# Altium footprint library Generic.PcbLib: 17 footprints (part 1 of 2)
Each footprint in its own frame and in the unit in brackets; x right, y up, seen from the top. Pads: shape width x height; smd on the part's side, far side on the other; paste and mask are expansions set on the pad; w line width, h text height; cw(c..) or ccw(c..) is an arc to the next point about the centre after c.
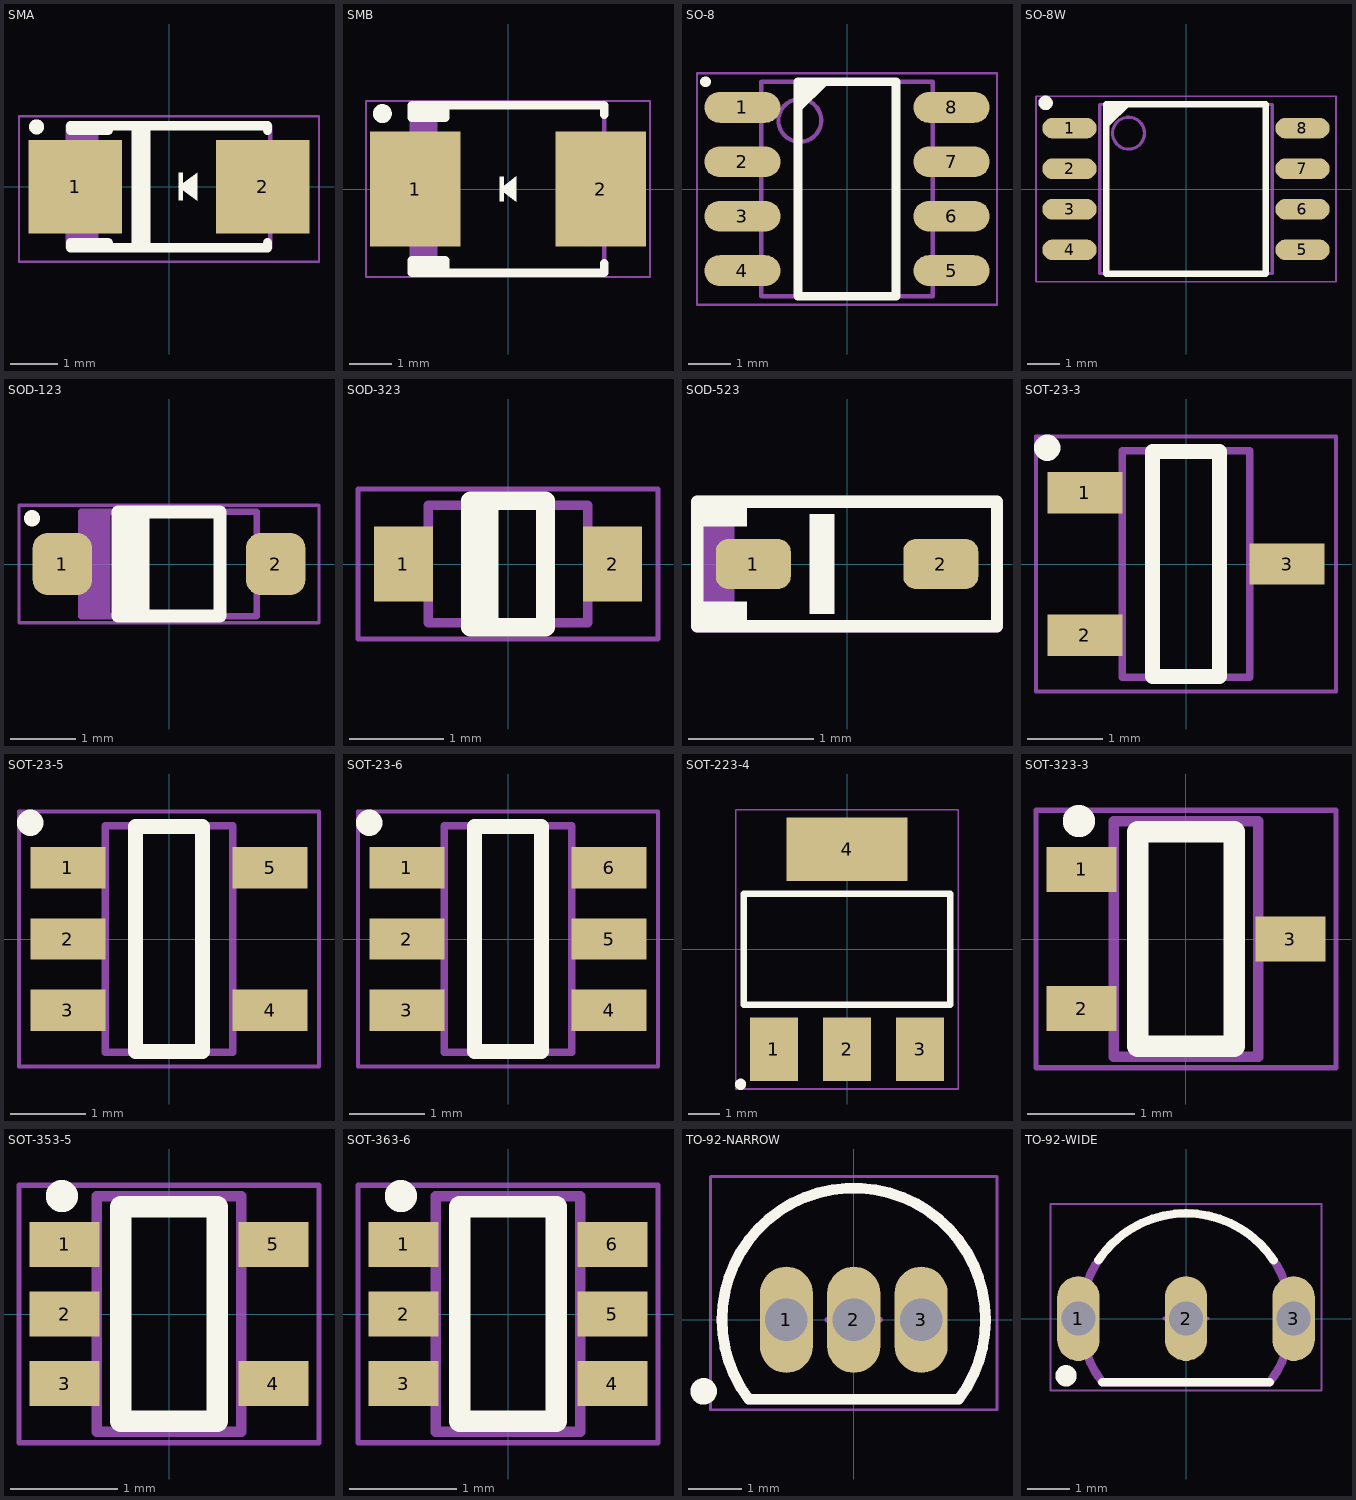
[diagram p0: the footprints below, top view; thin cyan lines are the x and y axes]

## SMA [mm] "Molded, 2-Leads, Body 4.6x3.95mm"
height 2.42
pads (2):
  rect 2x2 smd: 1(-2,0) 2(2,0)
Top Overlay:
  circle w0.25: c-2.825,1.275 r0.035
  rectangle: 0.2,-0.3 0.3,0.3
  rectangle: -0.8,-1.3 -0.4,1.3
  region: 0.6,0.3 0.6,-0.3 0.2,0
  lines w0.2: -1.3,-1.3 -1.3,-1.2 -2.1,-1.2 -2.1,-1.3 2.1,-1.3 2.1,-1.2 ; -1.3,1.3 -1.3,1.2 -2.1,1.2 -2.1,1.3 2.1,1.3 2.1,1.2
Mechanical 13:
  rectangle: -2.16,-1.3 -1.5,1.3
  lines w0.1: -2.16,-1.3 -2.16,1.3 2.16,1.3 2.16,-1.3 -2.16,-1.3
Mechanical 15:
  lines w0.05: -3.2,-1.6 -3.2,1.5 3.2,1.5 3.2,-1.6 -3.2,-1.6
  text ".Designator" at -3.2,-0.4 h1.5
3D body "User Library-DO-214AC_SMA.step": height 2.2, standoff 0, extent -2.5,-1.35 2.5,1.35

## SMB [mm] "Molded, 2-Leads, Body 4.6x3.95mm"
height 2.42
pads (2):
  rect 2.159x2.743 smd: 1(-2.21,0) 2(2.21,0)
Top Overlay:
  circle w0.25: c-3,1.8 r0.1
  rectangle: -2.3,-2 -1.5,-1.7
  rectangle: -2.3,1.7 -1.5,2
  rectangle: -0.2,-0.3 -0.1,0.3
  region: 0.2,0.3 0.2,-0.3 -0.2,0
  lines w0.2: -2.3,1.772 -2.3,2 ; -1.5,-2 -1.5,-1.7 -2.3,-1.7 -2.3,-2 2.3,-2 2.3,-1.772 ; -1.5,2 -1.5,1.7 -2.3,1.7 -2.3,2 ; 2.3,1.772 2.3,2 -2.3,2
Mechanical 13:
  rectangle: -2.3,-1.975 -1.681,1.975
  lines w0.1: -2.3,-1.975 2.3,-1.975 2.3,1.975 -2.3,1.975 -2.3,-1.975
Mechanical 15:
  lines w0.05: -3.39,-2.1 3.39,-2.1 3.39,2.1 -3.39,2.1 -3.39,-2.1
  text ".Designator" at -3.2,-0.4 h1.5
3D body "User Library-DO-214AA_SMB.step": height 2.25, standoff 0, extent -2.65,-1.85 2.65,1.85

## SO-8 [mm] "SOIC, 8-Leads, Body 4.90x3.90mm, Pitch 1.27mm, IPC Medium Density"
height 1.75
pads (8):
  oval 1.78x0.72 smd: 1(-2.44,1.905) 2(-2.44,0.635) 3(-2.44,-0.635) 4(-2.44,-1.905) 5(2.44,-1.905) 6(2.44,-0.635) 7(2.44,0.635) 8(2.44,1.905)
Top Overlay:
  circle w0.25: c-3.3,2.5 r0
  region: -0.45,2.45 -1.1,1.8 -1.1,2.45
  lines w0.2: -1.143,-2.5 1.143,-2.5 1.143,2.5 -1.143,2.5 -1.143,-2.5
Mechanical 13:
  circle w0.1: c-1.1,1.6 r0.5
  lines w0.1: -2,-2.5 2,-2.5 2,2.5 -2,2.5 -2,-2.5
Mechanical 15:
  lines w0.05: -3.5,-2.7 3.5,-2.7 3.5,2.7 -3.5,2.7 -3.5,-2.7
  text ".Designator" at -3.4,1.6 h1.5
3D body "User Library-SO8-1.step": height 1.75, standoff 0, extent -3.1,-2.5 3.1,2.5

## SO-8W [mm] "SOIC, 8-Leads, Body 5.23x5.28mm, Pitch 1.27mm, IPC Medium Density"
height 2.16
pads (8):
  oval 1.7x0.65 smd: 1(-3.65,1.905) 2(-3.65,0.635) 3(-3.65,-0.635) 4(-3.65,-1.905) 5(3.65,-1.905) 6(3.65,-0.635) 7(3.65,0.635) 8(3.65,1.905)
Top Overlay:
  circle w0.25: c-4.4,2.7 r0.1
  region: -1.75,2.625 -2.4,1.975 -2.4,2.625
  lines w0.2: -2.5,-2.65 -2.5,2.65 2.5,2.65 2.5,-2.65 -2.5,-2.65
Mechanical 13:
  circle w0.1: c-1.8,1.75 r0.5
  lines w0.1: -2.7,-2.65 -2.7,2.65 2.7,2.65 2.7,-2.65 -2.7,-2.65
Mechanical 15:
  lines w0.05: -4.7,-2.9 -4.7,2.9 4.7,2.9 4.7,-2.9 -4.7,-2.9
  text ".Designator" at -3,0 h1.5
3D body "MX25L_SO8_200MIL.step": height 2.16, standoff 0, extent -3.95,-2.65 3.95,2.65

## SOD-123 [mm] "SOD, 2-Leads, Body 2.69x1.6mm"
height 1.35
pads (2):
  rrect50% 0.91x0.95 smd: 1(-1.635,0) 2(1.635,0)
Top Overlay:
  circle w0.25: c-2.1,0.7 r0
  rectangle: -0.78,-0.8 -0.3,0.8
  lines w0.2: -0.78,-0.8 0.78,-0.8 0.78,0.8 -0.78,0.8 -0.78,-0.8
Mechanical 13:
  rectangle: -1.345,-0.8 -0.9,0.8
  lines w0.1: -1.345,-0.8 1.345,-0.8 1.345,0.8 -1.345,0.8 -1.345,-0.8
Mechanical 15:
  lines w0.05: -2.3,-0.9 2.3,-0.9 2.3,0.9 -2.3,0.9 -2.3,-0.9
  text ".Designator" at -2,-0.4 h1.5
3D body "CircuitWorks-SOD123.step": height 1.27, standoff 0, extent -1.85,-0.8 1.85,0.8

## SOD-323 [mm] "SOD, 2-Leads, Body 1.7x1.25mm"
height 1.062
pads (2):
  rect 0.63x0.8 smd: 1(-1.115,0) 2(1.115,0)
Top Overlay:
  rectangle: -0.4,-0.675 -0.1,0.675
  lines w0.2: -0.4,-0.675 -0.4,0.675 0.4,0.675 0.4,-0.675 -0.4,-0.675
Mechanical 13:
  lines w0.1: -0.85,-0.625 -0.85,0.625 0.85,0.625 0.85,-0.625 -0.85,-0.625
Mechanical 15:
  lines w0.05: -1.6,-0.8 -1.6,0.8 1.6,0.8 1.6,-0.8 -1.6,-0.8
  text ".Designator" at -1.4,-0.3 h1
3D body "User Library-SOD-323.step": height 1.1, standoff 0, extent -1.3,-0.675 1.3,0.675

## SOD-523 [mm]
pads (2):
  rrect50% 0.6x0.4 smd: 1(-0.75,0) 2(0.75,0)
Top Overlay:
  region: -0.8,0.3 -0.8,0.5 -1.2,0.5 -1.2,0.3
  region: -1.2,-0.3 -1.2,-0.5 -0.8,-0.5 -0.8,-0.3
  region: -0.1,0.4 -0.3,0.4 -0.3,-0.4 -0.1,-0.4
  lines w0.1: -1.2,-0.5 -1.2,0.5 1.2,0.5 1.2,-0.5 -1.2,-0.5
Mechanical 13:
  region: -0.9,0.5 -1.2,0.5 -1.2,-0.5 -0.9,-0.5
  lines w0.1: -1.2,-0.5 -1.2,0.5 1.2,0.5 1.2,-0.5 -1.2,-0.5
Mechanical 15:
  lines w0.05: -1.2,-0.5 -1.2,0.5 1.2,0.5 1.2,-0.5 -1.2,-0.5
  text ".Designator" at -1,-0.1 h0.5
3D body "User Library-SOD-523F.step": height 0.7, standoff 0, extent -0.8,-0.399 0.8,0.399

## SOT-23-3 [mm] "SOT23, 3-Leads"
height 1.45
pads (3):
  rect 1x0.55 smd: 1(-1.35,0.95) 2(-1.35,-0.95) 3(1.35,0)
Top Overlay:
  circle w0.25: c-1.85,1.55 r0.05
  lines w0.2: -0.45,-1.5 -0.45,1.5 0.45,1.5 0.45,-1.5 -0.45,-1.5
Mechanical 13:
  lines w0.1: -0.85,-1.51 0.85,-1.51 0.85,1.51 -0.85,1.51 -0.85,-1.51
Mechanical 15:
  lines w0.05: -2,-1.7 2,-1.7 2,1.7 -2,1.7 -2,-1.7
  text ".Designator" at -1.9,0.5 h1.5
3D body "CircuitWorks-SOT-23.step": height 1.1, standoff 0, extent -1.25,-1.5 1.25,1.5

## SOT-23-5 [mm] "SOT23, 5-Leads, Body 2.92x2.80mm, Pitch 0.95mm, IPC Medium Density"
height 1.45
pads (5):
  rect 1x0.55 smd: 1(-1.35,0.95) 2(-1.35,0) 3(-1.35,-0.95) 4(1.35,-0.95) 5(1.35,0.95)
Top Overlay:
  circle w0.25: c-1.85,1.55 r0.05
  lines w0.2: -0.45,-1.5 0.45,-1.5 0.45,1.5 -0.45,1.5 -0.45,-1.5
Mechanical 13:
  lines w0.1: -0.85,-1.51 -0.85,1.51 0.85,1.51 0.85,-1.51 -0.85,-1.51
Mechanical 15:
  lines w0.05: -2,-1.7 -2,1.7 2,1.7 2,-1.7 -2,-1.7
  text ".Designator" at -1.9,0.5 h1.5
3D body "CircuitWorks-SOT-23-5.step": height 1.1, standoff 0, extent -1.25,-1.5 1.25,1.5

## SOT-23-6 [mm] "SOT23, 6-Leads"
height 1.45
pads (6):
  rect 1x0.55 smd: 1(-1.35,0.95) 2(-1.35,0) 3(-1.35,-0.95) 4(1.35,-0.95) 5(1.35,0) 6(1.35,0.95)
Top Overlay:
  circle w0.25: c-1.85,1.55 r0.05
  lines w0.2: -0.45,-1.5 0.45,-1.5 0.45,1.5 -0.45,1.5 -0.45,-1.5
Mechanical 13:
  lines w0.1: -0.85,-1.51 -0.85,1.51 0.85,1.51 0.85,-1.51 -0.85,-1.51
Mechanical 15:
  lines w0.05: -2,-1.7 -2,1.7 2,1.7 2,-1.7 -2,-1.7
  text ".Designator" at -1.9,0.5 h1.5
3D body "User Library-SOT23-6.step": height 1.3, standoff 0, extent -1.5,-1.5 1.5,1.5

## SOT-223-4 [mm]
pads (4):
  rect 1.5x2 smd: 1(-2.3,-3.15) 2(0,-3.15) 3(2.3,-3.15)
  rect 3.8x2 smd: 4(0,3.15)
Top Overlay:
  circle w0.25: c-3.35,-4.25 r0.05
  lines w0.2: -3.25,-1.75 3.25,-1.75 3.25,1.75 -3.25,1.75 -3.25,-1.75
Mechanical 13:
  lines w0.1: -3.25,-1.75 3.25,-1.75 3.25,1.75 -3.25,1.75 -3.25,-1.75
Mechanical 15:
  lines w0.05: -3.5,-4.4 3.5,-4.4 3.5,4.4 -3.5,4.4 -3.5,-4.4
  text ".Designator" at -3.25,-0.3 h1.5
3D body "User Library-SOT-223-4.STEP": height 1.65, standoff 0, extent -3.25,-3.543 3.25,3.544

## SOT-323-3 [mm]
height 1.45
pads (3):
  rect 0.65x0.42 smd mask+0.076: 1(-0.975,0.65) 2(-0.975,-0.65) 3(0.975,0)
Top Overlay:
  circle w0.25: c-1,1.1 r0.025
  lines w0.2: -0.45,-1 0.45,-1 0.45,1 -0.45,1 -0.45,-1
Mechanical 13:
  lines w0.1: -0.675,-1.1 -0.675,1.1 0.675,1.1 0.675,-1.1 -0.675,-1.1
Mechanical 15:
  lines w0.05: -1.4,-1.2 -1.4,1.2 1.4,1.2 1.4,-1.2 -1.4,-1.2
  text ".Designator" at -1.3,-0.2 h0.8
3D body "User Library-sc70-3.step": height 1, standoff 0, extent -1.15,-1.05 1.15,1.05

## SOT-353-5 [mm]
height 1.45
pads (5):
  rect 0.65x0.42 smd mask+0.076: 1(-0.975,0.65) 2(-0.975,0) 3(-0.975,-0.65) 4(0.975,-0.65) 5(0.975,0.65)
Top Overlay:
  circle w0.25: c-1,1.1 r0.025
  lines w0.2: -0.45,-1 -0.45,1 0.45,1 0.45,-1 -0.45,-1
Mechanical 13:
  lines w0.1: -0.675,-1.1 0.675,-1.1 0.675,1.1 -0.675,1.1 -0.675,-1.1
Mechanical 15:
  lines w0.05: -1.4,-1.2 1.4,-1.2 1.4,1.2 -1.4,1.2 -1.4,-1.2
  text ".Designator" at -1.3,-0.2 h0.8
3D body "User Library-sot353.step": height 1, standoff 0, extent -1.15,-1.05 1.15,1.05

## SOT-363-6 [mm]
height 1.45
pads (6):
  rect 0.65x0.42 smd mask+0.076: 1(-0.975,0.65) 2(-0.975,0) 3(-0.975,-0.65) 4(0.975,-0.65) 5(0.975,0) 6(0.975,0.65)
Top Overlay:
  circle w0.25: c-1,1.1 r0.025
  lines w0.2: -0.45,-1 0.45,-1 0.45,1 -0.45,1 -0.45,-1
Mechanical 13:
  lines w0.1: -0.675,-1.1 -0.675,1.1 0.675,1.1 0.675,-1.1 -0.675,-1.1
Mechanical 15:
  lines w0.05: -1.4,-1.2 -1.4,1.2 1.4,1.2 1.4,-1.2 -1.4,-1.2
  text ".Designator" at -1.3,-0.2 h0.8
3D body "User Library-sot363.step": height 1, standoff 0, extent -1.15,-1.05 1.15,1.05

## TO-92-NARROW [mm] "TO, Flat Index; 3 In-Line, Axial Leads; Body Dia. 4.5mm; Leads 0.51 x 0.48 mm (max)"
height 6.86
pads (3):
  oval 1x2 hole 0.8: 1(-1.27,0) 2(0,0) 3(1.27,0)
Top Overlay:
  circle w0.25: c-2.83,-1.35 r0.125
  lines w0.2: -1.98,-1.5 cw(c0,0) 1.98,-1.5 -1.98,-1.5
Mechanical 13:
  lines w0.1: -1.98,-1.5 cw(c0,0) 1.98,-1.5 -1.98,-1.5
  lines w0.2: -1.98,-1.5 cw(c0,0) 1.98,-1.5 -1.98,-1.5
Mechanical 15:
  lines w0.05: -2.7,-1.7 2.7,-1.7 2.7,2.7 -2.7,2.7 -2.7,-1.7
  lines w0.1: -0.5,0 0.5,0 ; 0,-0.5 0,0.5
  text ".Designator" at -2.1,-0.8 h1.5
3D body "User Library-TO-92_Str.STEP": height 11, standoff -2, extent -2.613,-1.59 2.613,2.613

## TO-92-WIDE [mm] "TO, Flat Index; 3 In-Line, Axial Leads; Body Dia. 4.5mm; Leads 0.51 x 0.48 mm (max)"
height 6.86
pads (3):
  oval 1x2 hole 0.8: 1(-2.54,0) 2(0,0) 3(2.54,0)
Top Overlay:
  circle w0.25: c-2.83,-1.35 r0.125
  lines w0.2: -2.067,1.378 cw(c0,0) 2.067,1.378 ; -1.98,-1.5 1.98,-1.5
Mechanical 13:
  lines w0.1: -1.98,-1.5 cw(c0,0) 1.98,-1.5 -1.98,-1.5
  lines w0.2: -1.98,-1.5 cw(c0,0) 1.98,-1.5 -1.98,-1.5
Mechanical 15:
  lines w0.05: -3.2,-1.7 -3.2,2.7 3.2,2.7 3.2,-1.7 -3.2,-1.7
  lines w0.1: -0.5,0 0.5,0 ; 0,-0.5 0,0.5
  text ".Designator" at -2.1,-0.8 h1.5
3D body "User Library-TO-92_Bent.STEP": height 11, standoff -2, extent -2.79,-1.59 2.79,2.613